# Altium footprint library 5750[2220].PcbLib: 2 footprints
Each footprint in its own frame and in the unit in brackets; x right, y up, seen from the top. Pads: shape width x height; smd on the part's side, far side on the other; paste and mask are expansions set on the pad; w line width, h text height; cw(c..) or ccw(c..) is an arc to the next point about the centre after c.
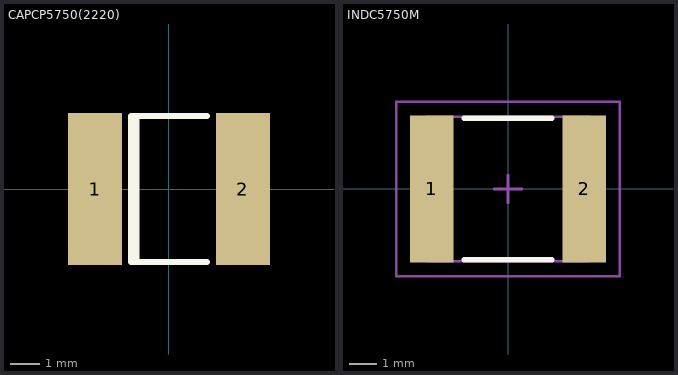
[diagram p0: the footprints below, top view; thin cyan lines are the x and y axes]

## CAPCP5750(2220) [mm] "Chip Capacitor; Body 5.7 x 5.0 mm (LxW typ)"
height 1.8
pads (2):
  rect 1.85x5.2 smd: 1(-2.525,0) 2(2.525,0)
Top Overlay:
  lines w0.2: -1.11,-2.5 -1.11,2.5 ; 1.3,-2.5 -1.3,-2.5 -1.3,2.5 1.3,2.5

## INDC5750M [mm] "Chip Inductor, Body 5.7x5.0mm, IPC Low Density"
height 1.9
pads (2):
  rect 1.6x5.4 smd: 1(-2.8,0) 2(2.8,0)
Top Overlay:
  lines w0.2: -1.6,-2.6 1.6,-2.6 ; -1.6,2.6 1.6,2.6
Mechanical 13:
  lines w0.1: -2.95,-2.65 2.95,-2.65 2.95,2.65 -2.95,2.65 -2.95,-2.65
Mechanical 15:
  lines w0.1: -0.5,0 0.5,0 ; 0,-0.5 0,0.5 ; -4.1,-3.2 4.1,-3.2 4.1,3.2 -4.1,3.2 -4.1,-3.2
3D body: height 1.9, standoff 0, extent -2.95,-2.65 2.95,2.65